# Altium integrated library Linear Technology PMIC-Switching Reg LTC1174-LTC3901.IntLib: 2647 symbols (part 49 of 310)
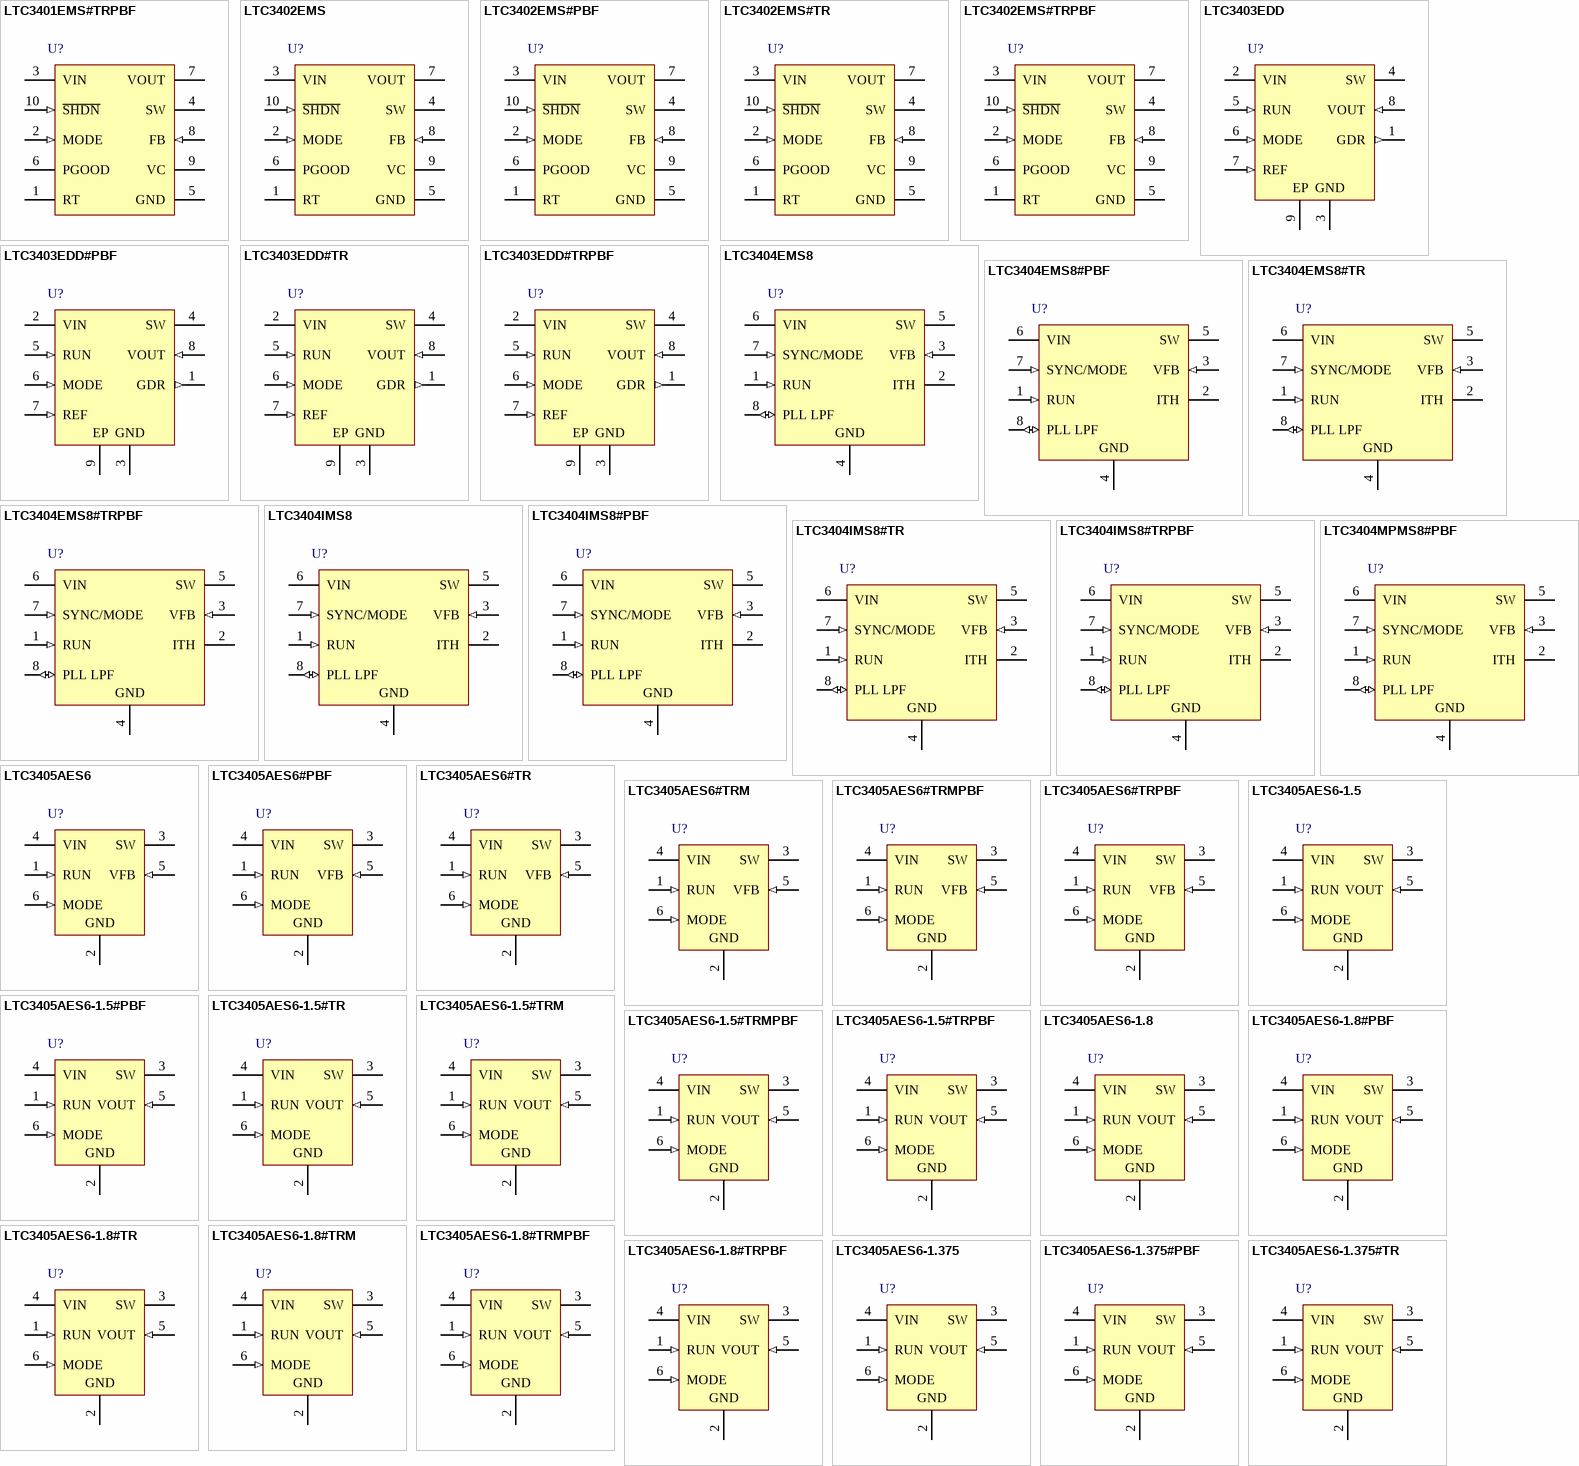
[diagram p145: symbols LTC3401EMS#TRPBF to LTC3405AES6-1.375#TR]

## LTC3401EMS#TRPBF
designator U?
1 A, 3 MHz Micropower Synchronous Boost Converter, 10-pin SOP (MS-10), -40 to 85 degC, Pb-Free, Tape and Reel; Manufacturer: Linear Technology; PartNumber: LTC3401EMS#TRPBF; Number of Outputs: 1; PackageReference: MS-10; PackageDescription: 10-Pin Plastic MSOP, Body 3 x 3 mm, Pitch 0.5 mm; Supplier 1: Digi-Key; Supplier Part Number 1: LTC3401EMS#TRPBFTR-ND; RoHS: TRUE
footprint LT-MS-10_N (SOP, 10-Leads, Body 3.1x3.1mm, Pitch 0.5mm, IPC Medium Density)
footprint LT-MS-10_L (SOP, 10-Leads, Body 3.1x3.1mm, Pitch 0.5mm, IPC High Density)
footprint LT-MS-10_M (SOP, 10-Leads, Body 3.1x3.1mm, Pitch 0.5mm, IPC Low Density)
pins: 1 RT "Timing Resistor to Program the Oscillator Frequency.", 2 MODE (in) "Burst Mode Select and Oscillator Synchronization. MODE/SYNC = High. Enable Burst Mode operation. The inductor peak inductor current will be 1/3 the current limit value and return to zero current on each cycle. During Burst (See Datasheet)", 3 VIN (power) "Input Supply Pin", 4 SW "Switch Pin. Connect inductor and Schottky diode here. For applications with output voltages over 4.3V, a Schottky diode is required to ensure that the SW pin voltage does not exceed its absolute maximum rating. Minimize (See Datasheet)", 5 GND (power) "Signal and Power Ground for the IC.", 6 PGOOD (oc) "Power Good Comparator Output. This open-drain output is low when VFB < -9% from its regulation voltage.", 7 VOUT (power) "Output of the Synchronous Rectifier and Bootstrapped Power Source for the IC. A ceramic capacitor of at least 1uF is required and should be located as close to the VOUT and GND pins as possible (Pins 7 and 5).", 8 FB (in) "Feedback Pin. Connect resistor divider tap here. The output voltage can be adjusted from 2.6V to 5V. The feedback reference voltage is typically 1.25V.", 9 VC "Error Amp Output. A frequency compensation network is connected to this pin to compensate the loop. See the section “Compensating the Feedback Loop” for guidelines.", 10 ~{SHDN} (in) "Shutdown. Grounding this pin shuts down the IC. Tie to >1V to enable (VIN or digital gate output). To operate with input voltages below 1V once the converter has started, a 1M resistor from S\H\D\N\ to VIN and a 5M resistor (See Datasheet)"

## LTC3402EMS
designator U?
1 A, 3 MHz Micropower Synchronous Boost Converter, 10-pin SOP (MS-10), -40 to 85 degC; Manufacturer: Linear Technology; PartNumber: LTC3402EMS; Number of Outputs: 1; PackageReference: MS-10; PackageDescription: 10-Pin Plastic MSOP, Body 3 x 3 mm, Pitch 0.5 mm; Supplier 1: Digi-Key; Supplier Part Number 1: LTC3402EMS-ND; RoHS: FALSE
footprint LT-MS-10_N (SOP, 10-Leads, Body 3.1x3.1mm, Pitch 0.5mm, IPC Medium Density)
footprint LT-MS-10_L (SOP, 10-Leads, Body 3.1x3.1mm, Pitch 0.5mm, IPC High Density)
footprint LT-MS-10_M (SOP, 10-Leads, Body 3.1x3.1mm, Pitch 0.5mm, IPC Low Density)
pins: 1 RT "Timing Resistor to Program the Oscillator Frequency.", 2 MODE (in) "Burst Mode Select and Oscillator Synchronization. MODE/SYNC = High. Enable Burst Mode operation. The inductor peak inductor current will be 1/3 the current limit value and return to zero current on each cycle. During Burst (See Datasheet)", 3 VIN (power) "Input Supply Pin", 4 SW "Switch Pin. Connect inductor and Schottky diode here. For applications with output voltages over 4.3V, a Schottky diode is required to ensure that the SW pin voltage does not exceed its absolute maximum rating. Minimize (See Datasheet)", 5 GND (power) "Signal and Power Ground for the IC.", 6 PGOOD (oc) "Power Good Comparator Output. This open-drain output is low when VFB < -9% from its regulation voltage.", 7 VOUT (power) "Output of the Synchronous Rectifier and Bootstrapped Power Source for the IC. A ceramic capacitor of at least 1uF is required and should be located as close to the VOUT and GND pins as possible (Pins 7 and 5).", 8 FB (in) "Feedback Pin. Connect resistor divider tap here. The output voltage can be adjusted from 2.6V to 5V. The feedback reference voltage is typically 1.25V.", 9 VC "Error Amp Output. A frequency compensation network is connected to this pin to compensate the loop. See the section “Compensating the Feedback Loop” for guidelines.", 10 ~{SHDN} (in) "Shutdown. Grounding this pin shuts down the IC. Tie to >1V to enable (VIN or digital gate output). To operate with input voltages below 1V once the converter has started, a 1M resistor from S\H\D\N\ to VIN and a 5M resistor (See Datasheet)"

## LTC3402EMS#PBF
designator U?
1 A, 3 MHz Micropower Synchronous Boost Converter, 10-pin SOP (MS-10), -40 to 85 degC, Pb-Free; Manufacturer: Linear Technology; PartNumber: LTC3402EMS#PBF; Number of Outputs: 1; PackageReference: MS-10; PackageDescription: 10-Pin Plastic MSOP, Body 3 x 3 mm, Pitch 0.5 mm; Supplier 1: Digi-Key; Supplier Part Number 1: LTC3402EMS#PBF-ND; RoHS: TRUE
footprint LT-MS-10_N (SOP, 10-Leads, Body 3.1x3.1mm, Pitch 0.5mm, IPC Medium Density)
footprint LT-MS-10_L (SOP, 10-Leads, Body 3.1x3.1mm, Pitch 0.5mm, IPC High Density)
footprint LT-MS-10_M (SOP, 10-Leads, Body 3.1x3.1mm, Pitch 0.5mm, IPC Low Density)
pins: 1 RT "Timing Resistor to Program the Oscillator Frequency.", 2 MODE (in) "Burst Mode Select and Oscillator Synchronization. MODE/SYNC = High. Enable Burst Mode operation. The inductor peak inductor current will be 1/3 the current limit value and return to zero current on each cycle. During Burst (See Datasheet)", 3 VIN (power) "Input Supply Pin", 4 SW "Switch Pin. Connect inductor and Schottky diode here. For applications with output voltages over 4.3V, a Schottky diode is required to ensure that the SW pin voltage does not exceed its absolute maximum rating. Minimize (See Datasheet)", 5 GND (power) "Signal and Power Ground for the IC.", 6 PGOOD (oc) "Power Good Comparator Output. This open-drain output is low when VFB < -9% from its regulation voltage.", 7 VOUT (power) "Output of the Synchronous Rectifier and Bootstrapped Power Source for the IC. A ceramic capacitor of at least 1uF is required and should be located as close to the VOUT and GND pins as possible (Pins 7 and 5).", 8 FB (in) "Feedback Pin. Connect resistor divider tap here. The output voltage can be adjusted from 2.6V to 5V. The feedback reference voltage is typically 1.25V.", 9 VC "Error Amp Output. A frequency compensation network is connected to this pin to compensate the loop. See the section “Compensating the Feedback Loop” for guidelines.", 10 ~{SHDN} (in) "Shutdown. Grounding this pin shuts down the IC. Tie to >1V to enable (VIN or digital gate output). To operate with input voltages below 1V once the converter has started, a 1M resistor from S\H\D\N\ to VIN and a 5M resistor (See Datasheet)"

## LTC3402EMS#TR
designator U?
1 A, 3 MHz Micropower Synchronous Boost Converter, 10-pin SOP (MS-10), -40 to 85 degC, Tape and Reel; Manufacturer: Linear Technology; PartNumber: LTC3402EMS#TR; Number of Outputs: 1; PackageReference: MS-10; PackageDescription: 10-Pin Plastic MSOP, Body 3 x 3 mm, Pitch 0.5 mm; Supplier 1: Digi-Key; Supplier Part Number 1: LTC3402EMS#TR-ND; RoHS: FALSE
footprint LT-MS-10_N (SOP, 10-Leads, Body 3.1x3.1mm, Pitch 0.5mm, IPC Medium Density)
footprint LT-MS-10_L (SOP, 10-Leads, Body 3.1x3.1mm, Pitch 0.5mm, IPC High Density)
footprint LT-MS-10_M (SOP, 10-Leads, Body 3.1x3.1mm, Pitch 0.5mm, IPC Low Density)
pins: 1 RT "Timing Resistor to Program the Oscillator Frequency.", 2 MODE (in) "Burst Mode Select and Oscillator Synchronization. MODE/SYNC = High. Enable Burst Mode operation. The inductor peak inductor current will be 1/3 the current limit value and return to zero current on each cycle. During Burst (See Datasheet)", 3 VIN (power) "Input Supply Pin", 4 SW "Switch Pin. Connect inductor and Schottky diode here. For applications with output voltages over 4.3V, a Schottky diode is required to ensure that the SW pin voltage does not exceed its absolute maximum rating. Minimize (See Datasheet)", 5 GND (power) "Signal and Power Ground for the IC.", 6 PGOOD (oc) "Power Good Comparator Output. This open-drain output is low when VFB < -9% from its regulation voltage.", 7 VOUT (power) "Output of the Synchronous Rectifier and Bootstrapped Power Source for the IC. A ceramic capacitor of at least 1uF is required and should be located as close to the VOUT and GND pins as possible (Pins 7 and 5).", 8 FB (in) "Feedback Pin. Connect resistor divider tap here. The output voltage can be adjusted from 2.6V to 5V. The feedback reference voltage is typically 1.25V.", 9 VC "Error Amp Output. A frequency compensation network is connected to this pin to compensate the loop. See the section “Compensating the Feedback Loop” for guidelines.", 10 ~{SHDN} (in) "Shutdown. Grounding this pin shuts down the IC. Tie to >1V to enable (VIN or digital gate output). To operate with input voltages below 1V once the converter has started, a 1M resistor from S\H\D\N\ to VIN and a 5M resistor (See Datasheet)"

## LTC3402EMS#TRPBF
designator U?
1 A, 3 MHz Micropower Synchronous Boost Converter, 10-pin SOP (MS-10), -40 to 85 degC, Pb-Free, Tape and Reel; Manufacturer: Linear Technology; PartNumber: LTC3402EMS#TRPBF; Number of Outputs: 1; PackageReference: MS-10; PackageDescription: 10-Pin Plastic MSOP, Body 3 x 3 mm, Pitch 0.5 mm; Supplier 1: Digi-Key; Supplier Part Number 1: LTC3402EMS#TRPBF-ND; RoHS: TRUE
footprint LT-MS-10_N (SOP, 10-Leads, Body 3.1x3.1mm, Pitch 0.5mm, IPC Medium Density)
footprint LT-MS-10_L (SOP, 10-Leads, Body 3.1x3.1mm, Pitch 0.5mm, IPC High Density)
footprint LT-MS-10_M (SOP, 10-Leads, Body 3.1x3.1mm, Pitch 0.5mm, IPC Low Density)
pins: 1 RT "Timing Resistor to Program the Oscillator Frequency.", 2 MODE (in) "Burst Mode Select and Oscillator Synchronization. MODE/SYNC = High. Enable Burst Mode operation. The inductor peak inductor current will be 1/3 the current limit value and return to zero current on each cycle. During Burst (See Datasheet)", 3 VIN (power) "Input Supply Pin", 4 SW "Switch Pin. Connect inductor and Schottky diode here. For applications with output voltages over 4.3V, a Schottky diode is required to ensure that the SW pin voltage does not exceed its absolute maximum rating. Minimize (See Datasheet)", 5 GND (power) "Signal and Power Ground for the IC.", 6 PGOOD (oc) "Power Good Comparator Output. This open-drain output is low when VFB < -9% from its regulation voltage.", 7 VOUT (power) "Output of the Synchronous Rectifier and Bootstrapped Power Source for the IC. A ceramic capacitor of at least 1uF is required and should be located as close to the VOUT and GND pins as possible (Pins 7 and 5).", 8 FB (in) "Feedback Pin. Connect resistor divider tap here. The output voltage can be adjusted from 2.6V to 5V. The feedback reference voltage is typically 1.25V.", 9 VC "Error Amp Output. A frequency compensation network is connected to this pin to compensate the loop. See the section “Compensating the Feedback Loop” for guidelines.", 10 ~{SHDN} (in) "Shutdown. Grounding this pin shuts down the IC. Tie to >1V to enable (VIN or digital gate output). To operate with input voltages below 1V once the converter has started, a 1M resistor from S\H\D\N\ to VIN and a 5M resistor (See Datasheet)"

## LTC3403EDD
designator U?
1.5MHz, 600mA Synchronous Step-Down Regulator with Bypass Transistor, 8-pin SON (DD-8), -40 to 85 degC; Manufacturer: Linear Technology; PartNumber: LTC3403EDD; Number of Outputs: 1; PackageReference: DD-8; PackageDescription: 8-Pin Plastic DFN, Body 3 x 3 mm, Pitch 0.5 mm; Supplier 1: Digi-Key; Supplier Part Number 1: LTC3403EDD-ND; RoHS: FALSE; Code_JEDEC: MO-229
footprint LT-DD-8_V (SON, 8-Leads, Body 3x3mm, Pitch 0.5mm, Thermal Pad 1.65x2.38 mm)
pins: 1 GDR (out) "MOSFET Gate Driver. Drives a small external P-channel MOSFET.", 2 VIN (power) "Main Supply Pin. Must be closely decoupled to GND, Pin 3, with a 10uF or greater ceramic capacitor.", 3 GND (power) "Ground Pin.", 4 SW (power) "Switch Node Connection to Inductor. This pin connects to the drains of the internal main and synchronous power MOSFET switches.", 5 RUN (in) "Run Control Input. Forcing this pin above 1.5V enables the part. Forcing this pin below 0.3V shuts down the device. In shutdown, all functions are disabled drawing <1uA supply current. Do not leave RUN floating.", 6 MODE (in) "Mode Select Input. To select forced continuous mode, tie to VIN. Grounding this pin selects Burst Mode operation. Do not leave this pin floating.", 7 REF (in) "External Reference Input. Controls the output voltage to 3xthe applied voltage at REF. Also turns on the bypass MOSFET when VREF > 1.2V.", 8 VOUT (in) "Output Voltage Feedback Pin. An internal resistive divider divides the output voltage down by 3 for comparison to the external reference voltage. The drain of the P-channel bypass MOSFET is connected to this pin.", 9 EP (power) "Connect to GND, Pin 3."

## LTC3403EDD#PBF
designator U?
1.5MHz, 600mA Synchronous Step-Down Regulator with Bypass Transistor, 8-pin SON (DD-8), -40 to 85 degC, Pb-Free; Manufacturer: Linear Technology; PartNumber: LTC3403EDD#PBF; Number of Outputs: 1; PackageReference: DD-8; PackageDescription: 8-Pin Plastic DFN, Body 3 x 3 mm, Pitch 0.5 mm; Supplier 1: Digi-Key; Supplier Part Number 1: LTC3403EDD#PBF-ND; RoHS: TRUE; Code_JEDEC: MO-229
footprint LT-DD-8_V (SON, 8-Leads, Body 3x3mm, Pitch 0.5mm, Thermal Pad 1.65x2.38 mm)
pins: 1 GDR (out) "MOSFET Gate Driver. Drives a small external P-channel MOSFET.", 2 VIN (power) "Main Supply Pin. Must be closely decoupled to GND, Pin 3, with a 10uF or greater ceramic capacitor.", 3 GND (power) "Ground Pin.", 4 SW (power) "Switch Node Connection to Inductor. This pin connects to the drains of the internal main and synchronous power MOSFET switches.", 5 RUN (in) "Run Control Input. Forcing this pin above 1.5V enables the part. Forcing this pin below 0.3V shuts down the device. In shutdown, all functions are disabled drawing <1uA supply current. Do not leave RUN floating.", 6 MODE (in) "Mode Select Input. To select forced continuous mode, tie to VIN. Grounding this pin selects Burst Mode operation. Do not leave this pin floating.", 7 REF (in) "External Reference Input. Controls the output voltage to 3xthe applied voltage at REF. Also turns on the bypass MOSFET when VREF > 1.2V.", 8 VOUT (in) "Output Voltage Feedback Pin. An internal resistive divider divides the output voltage down by 3 for comparison to the external reference voltage. The drain of the P-channel bypass MOSFET is connected to this pin.", 9 EP (power) "Connect to GND, Pin 3."

## LTC3403EDD#TR
designator U?
1.5MHz, 600mA Synchronous Step-Down Regulator with Bypass Transistor, 8-pin SON (DD-8), -40 to 85 degC, Tape and Reel; Manufacturer: Linear Technology; PartNumber: LTC3403EDD#TR; Number of Outputs: 1; PackageReference: DD-8; PackageDescription: 8-Pin Plastic DFN, Body 3 x 3 mm, Pitch 0.5 mm; Supplier 1: Digi-Key; Supplier Part Number 1: LTC3403EDD#TR-ND; RoHS: FALSE; Code_JEDEC: MO-229
footprint LT-DD-8_V (SON, 8-Leads, Body 3x3mm, Pitch 0.5mm, Thermal Pad 1.65x2.38 mm)
pins: 1 GDR (out) "MOSFET Gate Driver. Drives a small external P-channel MOSFET.", 2 VIN (power) "Main Supply Pin. Must be closely decoupled to GND, Pin 3, with a 10uF or greater ceramic capacitor.", 3 GND (power) "Ground Pin.", 4 SW (power) "Switch Node Connection to Inductor. This pin connects to the drains of the internal main and synchronous power MOSFET switches.", 5 RUN (in) "Run Control Input. Forcing this pin above 1.5V enables the part. Forcing this pin below 0.3V shuts down the device. In shutdown, all functions are disabled drawing <1uA supply current. Do not leave RUN floating.", 6 MODE (in) "Mode Select Input. To select forced continuous mode, tie to VIN. Grounding this pin selects Burst Mode operation. Do not leave this pin floating.", 7 REF (in) "External Reference Input. Controls the output voltage to 3xthe applied voltage at REF. Also turns on the bypass MOSFET when VREF > 1.2V.", 8 VOUT (in) "Output Voltage Feedback Pin. An internal resistive divider divides the output voltage down by 3 for comparison to the external reference voltage. The drain of the P-channel bypass MOSFET is connected to this pin.", 9 EP (power) "Connect to GND, Pin 3."

## LTC3403EDD#TRPBF
designator U?
1.5MHz, 600mA Synchronous Step-Down Regulator with Bypass Transistor, 8-pin SON (DD-8), -40 to 85 degC, Pb-Free, Tape and Reel; Manufacturer: Linear Technology; PartNumber: LTC3403EDD#TRPBF; Number of Outputs: 1; PackageReference: DD-8; PackageDescription: 8-Pin Plastic DFN, Body 3 x 3 mm, Pitch 0.5 mm; Supplier 1: Digi-Key; Supplier Part Number 1: LTC3403EDD#TRPBF-ND; RoHS: TRUE; Code_JEDEC: MO-229
footprint LT-DD-8_V (SON, 8-Leads, Body 3x3mm, Pitch 0.5mm, Thermal Pad 1.65x2.38 mm)
pins: 1 GDR (out) "MOSFET Gate Driver. Drives a small external P-channel MOSFET.", 2 VIN (power) "Main Supply Pin. Must be closely decoupled to GND, Pin 3, with a 10uF or greater ceramic capacitor.", 3 GND (power) "Ground Pin.", 4 SW (power) "Switch Node Connection to Inductor. This pin connects to the drains of the internal main and synchronous power MOSFET switches.", 5 RUN (in) "Run Control Input. Forcing this pin above 1.5V enables the part. Forcing this pin below 0.3V shuts down the device. In shutdown, all functions are disabled drawing <1uA supply current. Do not leave RUN floating.", 6 MODE (in) "Mode Select Input. To select forced continuous mode, tie to VIN. Grounding this pin selects Burst Mode operation. Do not leave this pin floating.", 7 REF (in) "External Reference Input. Controls the output voltage to 3xthe applied voltage at REF. Also turns on the bypass MOSFET when VREF > 1.2V.", 8 VOUT (in) "Output Voltage Feedback Pin. An internal resistive divider divides the output voltage down by 3 for comparison to the external reference voltage. The drain of the P-channel bypass MOSFET is connected to this pin.", 9 EP (power) "Connect to GND, Pin 3."

## LTC3404EMS8
designator U?
1.4 MHz High Efficiency Monolithic Synchronous Step-Down Regulator, 8-pin SOP (MS8-8), -40 to 85 degC; Manufacturer: Linear Technology; PartNumber: LTC3404EMS8; Number of Outputs: 1; PackageReference: MS8; PackageDescription: 8-Pin Plastic MSOP, Body 3 x 3 mm, Pitch 0.65 mm; Supplier 1: Digi-Key; Supplier Part Number 1: LTC3404EMS8-ND; RoHS: FALSE
footprint LT-MS8_N (SOP, 8-Leads, Body 3.1x3.1mm, Pitch 0.65mm, IPC Medium Density)
footprint LT-MS8_L (SOP, 8-Leads, Body 3.1x3.1mm, Pitch 0.65mm, IPC High Density)
footprint LT-MS8_M (SOP, 8-Leads, Body 3.1x3.1mm, Pitch 0.65mm, IPC Low Density)
pins: 1 RUN (in), 2 ITH "Error Amplifier Compensation Point. The current comparator threshold increases with this control voltage. Nominal voltage range for this pin is from 0.5V to 1.9V", 3 VFB (in) "Feedback Pin. Receives the feedback voltage from an external resistive divider across the output.", 4 GND (power) "Ground Pin.", 5 SW (power) "Switch Node Connection to Inductor. This pin connects to the drains of the internal main and synchronous power MOSFET switches.", 6 VIN (power) "Main Supply Pin. Must be closely decoupled to GND, Pin 4.", 7 SYNC/MODE (in), 8 PLL LPF (io) "Output of the Phase Detector and Control Input of Oscillator. Connect a series RC lowpass network from this pin to ground if externally synchronized. If unused, this pin may be left open."

## LTC3404EMS8#PBF
designator U?
1.4 MHz High Efficiency Monolithic Synchronous Step-Down Regulator, 8-pin SOP (MS8-8), -40 to 85 degC, Pb-Free; Manufacturer: Linear Technology; PartNumber: LTC3404EMS8#PBF; Number of Outputs: 1; PackageReference: MS8; PackageDescription: 8-Pin Plastic MSOP, Body 3 x 3 mm, Pitch 0.65 mm; Supplier 1: Digi-Key; Supplier Part Number 1: LTC3404EMS8#PBF-ND; RoHS: TRUE
footprint LT-MS8_N (SOP, 8-Leads, Body 3.1x3.1mm, Pitch 0.65mm, IPC Medium Density)
footprint LT-MS8_L (SOP, 8-Leads, Body 3.1x3.1mm, Pitch 0.65mm, IPC High Density)
footprint LT-MS8_M (SOP, 8-Leads, Body 3.1x3.1mm, Pitch 0.65mm, IPC Low Density)
pins: 1 RUN (in), 2 ITH "Error Amplifier Compensation Point. The current comparator threshold increases with this control voltage. Nominal voltage range for this pin is from 0.5V to 1.9V", 3 VFB (in) "Feedback Pin. Receives the feedback voltage from an external resistive divider across the output.", 4 GND (power) "Ground Pin.", 5 SW (power) "Switch Node Connection to Inductor. This pin connects to the drains of the internal main and synchronous power MOSFET switches.", 6 VIN (power) "Main Supply Pin. Must be closely decoupled to GND, Pin 4.", 7 SYNC/MODE (in), 8 PLL LPF (io) "Output of the Phase Detector and Control Input of Oscillator. Connect a series RC lowpass network from this pin to ground if externally synchronized. If unused, this pin may be left open."

## LTC3404EMS8#TR
designator U?
1.4 MHz High Efficiency Monolithic Synchronous Step-Down Regulator, 8-pin SOP (MS8-8), -40 to 85 degC, Tape and Reel; Manufacturer: Linear Technology; PartNumber: LTC3404EMS8#TR; Number of Outputs: 1; PackageReference: MS8; PackageDescription: 8-Pin Plastic MSOP, Body 3 x 3 mm, Pitch 0.65 mm; Supplier 1: Digi-Key; Supplier Part Number 1: LTC3404EMS8#TR-ND; RoHS: FALSE
footprint LT-MS8_N (SOP, 8-Leads, Body 3.1x3.1mm, Pitch 0.65mm, IPC Medium Density)
footprint LT-MS8_L (SOP, 8-Leads, Body 3.1x3.1mm, Pitch 0.65mm, IPC High Density)
footprint LT-MS8_M (SOP, 8-Leads, Body 3.1x3.1mm, Pitch 0.65mm, IPC Low Density)
pins: 1 RUN (in), 2 ITH "Error Amplifier Compensation Point. The current comparator threshold increases with this control voltage. Nominal voltage range for this pin is from 0.5V to 1.9V", 3 VFB (in) "Feedback Pin. Receives the feedback voltage from an external resistive divider across the output.", 4 GND (power) "Ground Pin.", 5 SW (power) "Switch Node Connection to Inductor. This pin connects to the drains of the internal main and synchronous power MOSFET switches.", 6 VIN (power) "Main Supply Pin. Must be closely decoupled to GND, Pin 4.", 7 SYNC/MODE (in), 8 PLL LPF (io) "Output of the Phase Detector and Control Input of Oscillator. Connect a series RC lowpass network from this pin to ground if externally synchronized. If unused, this pin may be left open."

## LTC3404EMS8#TRPBF
designator U?
1.4 MHz High Efficiency Monolithic Synchronous Step-Down Regulator, 8-pin SOP (MS8-8), -40 to 85 degC, Pb-Free, Tape and Reel; Manufacturer: Linear Technology; PartNumber: LTC3404EMS8#TRPBF; Number of Outputs: 1; PackageReference: MS8; PackageDescription: 8-Pin Plastic MSOP, Body 3 x 3 mm, Pitch 0.65 mm; Supplier 1: Digi-Key; Supplier Part Number 1: LTC3404EMS8#TRPBF-ND; RoHS: TRUE
footprint LT-MS8_N (SOP, 8-Leads, Body 3.1x3.1mm, Pitch 0.65mm, IPC Medium Density)
footprint LT-MS8_L (SOP, 8-Leads, Body 3.1x3.1mm, Pitch 0.65mm, IPC High Density)
footprint LT-MS8_M (SOP, 8-Leads, Body 3.1x3.1mm, Pitch 0.65mm, IPC Low Density)
pins: 1 RUN (in), 2 ITH "Error Amplifier Compensation Point. The current comparator threshold increases with this control voltage. Nominal voltage range for this pin is from 0.5V to 1.9V", 3 VFB (in) "Feedback Pin. Receives the feedback voltage from an external resistive divider across the output.", 4 GND (power) "Ground Pin.", 5 SW (power) "Switch Node Connection to Inductor. This pin connects to the drains of the internal main and synchronous power MOSFET switches.", 6 VIN (power) "Main Supply Pin. Must be closely decoupled to GND, Pin 4.", 7 SYNC/MODE (in), 8 PLL LPF (io) "Output of the Phase Detector and Control Input of Oscillator. Connect a series RC lowpass network from this pin to ground if externally synchronized. If unused, this pin may be left open."

## LTC3404IMS8
designator U?
1.4 MHz High Efficiency Monolithic Synchronous Step-Down Regulator, 8-pin SOP (MS8-8), -40 to 85 degC; Manufacturer: Linear Technology; PartNumber: LTC3404IMS8; Number of Outputs: 1; PackageReference: MS8; PackageDescription: 8-Pin Plastic MSOP, Body 3 x 3 mm, Pitch 0.65 mm; Supplier 1: Newark; Supplier Part Number 1: 56M7510; RoHS: FALSE
footprint LT-MS8_N (SOP, 8-Leads, Body 3.1x3.1mm, Pitch 0.65mm, IPC Medium Density)
footprint LT-MS8_L (SOP, 8-Leads, Body 3.1x3.1mm, Pitch 0.65mm, IPC High Density)
footprint LT-MS8_M (SOP, 8-Leads, Body 3.1x3.1mm, Pitch 0.65mm, IPC Low Density)
pins: 1 RUN (in), 2 ITH "Error Amplifier Compensation Point. The current comparator threshold increases with this control voltage. Nominal voltage range for this pin is from 0.5V to 1.9V", 3 VFB (in) "Feedback Pin. Receives the feedback voltage from an external resistive divider across the output.", 4 GND (power) "Ground Pin.", 5 SW (power) "Switch Node Connection to Inductor. This pin connects to the drains of the internal main and synchronous power MOSFET switches.", 6 VIN (power) "Main Supply Pin. Must be closely decoupled to GND, Pin 4.", 7 SYNC/MODE (in), 8 PLL LPF (io) "Output of the Phase Detector and Control Input of Oscillator. Connect a series RC lowpass network from this pin to ground if externally synchronized. If unused, this pin may be left open."

## LTC3404IMS8#PBF
designator U?
1.4 MHz High Efficiency Monolithic Synchronous Step-Down Regulator, 8-pin SOP (MS8-8), -40 to 85 degC, Pb-Free; Manufacturer: Linear Technology; PartNumber: LTC3404IMS8#PBF; Number of Outputs: 1; PackageReference: MS8; PackageDescription: 8-Pin Plastic MSOP, Body 3 x 3 mm, Pitch 0.65 mm; Supplier 1: Digi-Key; Supplier Part Number 1: LTC3404IMS8#PBF-ND; RoHS: TRUE
footprint LT-MS8_N (SOP, 8-Leads, Body 3.1x3.1mm, Pitch 0.65mm, IPC Medium Density)
footprint LT-MS8_L (SOP, 8-Leads, Body 3.1x3.1mm, Pitch 0.65mm, IPC High Density)
footprint LT-MS8_M (SOP, 8-Leads, Body 3.1x3.1mm, Pitch 0.65mm, IPC Low Density)
pins: 1 RUN (in), 2 ITH "Error Amplifier Compensation Point. The current comparator threshold increases with this control voltage. Nominal voltage range for this pin is from 0.5V to 1.9V", 3 VFB (in) "Feedback Pin. Receives the feedback voltage from an external resistive divider across the output.", 4 GND (power) "Ground Pin.", 5 SW (power) "Switch Node Connection to Inductor. This pin connects to the drains of the internal main and synchronous power MOSFET switches.", 6 VIN (power) "Main Supply Pin. Must be closely decoupled to GND, Pin 4.", 7 SYNC/MODE (in), 8 PLL LPF (io) "Output of the Phase Detector and Control Input of Oscillator. Connect a series RC lowpass network from this pin to ground if externally synchronized. If unused, this pin may be left open."

## LTC3404IMS8#TR
designator U?
1.4 MHz High Efficiency Monolithic Synchronous Step-Down Regulator, 8-pin SOP (MS8-8), -40 to 85 degC, Tape and Reel; Manufacturer: Linear Technology; PartNumber: LTC3404IMS8#TR; Number of Outputs: 1; PackageReference: MS8; PackageDescription: 8-Pin Plastic MSOP, Body 3 x 3 mm, Pitch 0.65 mm; RoHS: FALSE
footprint LT-MS8_N (SOP, 8-Leads, Body 3.1x3.1mm, Pitch 0.65mm, IPC Medium Density)
footprint LT-MS8_L (SOP, 8-Leads, Body 3.1x3.1mm, Pitch 0.65mm, IPC High Density)
footprint LT-MS8_M (SOP, 8-Leads, Body 3.1x3.1mm, Pitch 0.65mm, IPC Low Density)
pins: 1 RUN (in), 2 ITH "Error Amplifier Compensation Point. The current comparator threshold increases with this control voltage. Nominal voltage range for this pin is from 0.5V to 1.9V", 3 VFB (in) "Feedback Pin. Receives the feedback voltage from an external resistive divider across the output.", 4 GND (power) "Ground Pin.", 5 SW (power) "Switch Node Connection to Inductor. This pin connects to the drains of the internal main and synchronous power MOSFET switches.", 6 VIN (power) "Main Supply Pin. Must be closely decoupled to GND, Pin 4.", 7 SYNC/MODE (in), 8 PLL LPF (io) "Output of the Phase Detector and Control Input of Oscillator. Connect a series RC lowpass network from this pin to ground if externally synchronized. If unused, this pin may be left open."

## LTC3404IMS8#TRPBF
designator U?
1.4 MHz High Efficiency Monolithic Synchronous Step-Down Regulator, 8-pin SOP (MS8-8), -40 to 85 degC, Pb-Free, Tape and Reel; Manufacturer: Linear Technology; PartNumber: LTC3404IMS8#TRPBF; Number of Outputs: 1; PackageReference: MS8; PackageDescription: 8-Pin Plastic MSOP, Body 3 x 3 mm, Pitch 0.65 mm; Supplier 1: Digi-Key; Supplier Part Number 1: LTC3404IMS8#TRPBF-ND; RoHS: TRUE
footprint LT-MS8_N (SOP, 8-Leads, Body 3.1x3.1mm, Pitch 0.65mm, IPC Medium Density)
footprint LT-MS8_L (SOP, 8-Leads, Body 3.1x3.1mm, Pitch 0.65mm, IPC High Density)
footprint LT-MS8_M (SOP, 8-Leads, Body 3.1x3.1mm, Pitch 0.65mm, IPC Low Density)
pins: 1 RUN (in), 2 ITH "Error Amplifier Compensation Point. The current comparator threshold increases with this control voltage. Nominal voltage range for this pin is from 0.5V to 1.9V", 3 VFB (in) "Feedback Pin. Receives the feedback voltage from an external resistive divider across the output.", 4 GND (power) "Ground Pin.", 5 SW (power) "Switch Node Connection to Inductor. This pin connects to the drains of the internal main and synchronous power MOSFET switches.", 6 VIN (power) "Main Supply Pin. Must be closely decoupled to GND, Pin 4.", 7 SYNC/MODE (in), 8 PLL LPF (io) "Output of the Phase Detector and Control Input of Oscillator. Connect a series RC lowpass network from this pin to ground if externally synchronized. If unused, this pin may be left open."

## LTC3404MPMS8#PBF
designator U?
1.4 MHz High Efficiency Monolithic Synchronous Step-Down Regulator, 8-pin SOP (MS8-8), -55 to 125 degC, Pb-Free; Manufacturer: Linear Technology; PartNumber: LTC3404MPMS8#PBF; Number of Outputs: 1; PackageReference: MS8; PackageDescription: 8-Pin Plastic MSOP, Body 3 x 3 mm, Pitch 0.65 mm; Supplier 1: Digi-Key; Supplier Part Number 1: LTC3404MPMS8#PBF-ND; RoHS: TRUE
footprint LT-MS8_N (SOP, 8-Leads, Body 3.1x3.1mm, Pitch 0.65mm, IPC Medium Density)
footprint LT-MS8_L (SOP, 8-Leads, Body 3.1x3.1mm, Pitch 0.65mm, IPC High Density)
footprint LT-MS8_M (SOP, 8-Leads, Body 3.1x3.1mm, Pitch 0.65mm, IPC Low Density)
pins: 1 RUN (in), 2 ITH "Error Amplifier Compensation Point. The current comparator threshold increases with this control voltage. Nominal voltage range for this pin is from 0.5V to 1.9V", 3 VFB (in) "Feedback Pin. Receives the feedback voltage from an external resistive divider across the output.", 4 GND (power) "Ground Pin.", 5 SW (power) "Switch Node Connection to Inductor. This pin connects to the drains of the internal main and synchronous power MOSFET switches.", 6 VIN (power) "Main Supply Pin. Must be closely decoupled to GND, Pin 4.", 7 SYNC/MODE (in), 8 PLL LPF (io) "Output of the Phase Detector and Control Input of Oscillator. Connect a series RC lowpass network from this pin to ground if externally synchronized. If unused, this pin may be left open."

## LTC3405AES6
designator U?
1.5 MHz, 300 mA Synchronous Step-Down Regulator, 6-pin SOT23 (S6-6), -40 to 85 degC; Manufacturer: Linear Technology; PartNumber: LTC3405AES6; Number of Outputs: 1; PackageReference: S6-6; PackageDescription: 6-Pin Plastic TSOT-23, Body 2.9 x 1.63 mm, Pitch 0.95 mm; RoHS: FALSE; Code_JEDEC: MO-193
footprint LT-S6-6-TSOT-23_N (SOT23, 6-Leads, Body 2.9x1.75mm, Pitch 0.95mm, IPC Medium Density)
footprint LT-S6-6-TSOT-23_L (SOT23, 6-Leads, Body 2.9x1.75mm, Pitch 0.95mm, IPC High Density)
footprint LT-S6-6-TSOT-23_M (SOT23, 6-Leads, Body 2.9x1.75mm, Pitch 0.95mm, IPC Low Density)
pins: 1 RUN (in) "Run Control Input. Forcing this pin above 1.5V enables the part. Forcing this pin below 0.3V shuts down the device. In shutdown, all functions are disabled drawing <1uA supply current. Do not leave RUN floating.", 2 GND (power) "Ground Pin.", 3 SW (power) "Switch Node Connection to Inductor. This pin connects to the drains of the internal main and synchronous power MOSFET switches.", 4 VIN (power) "Main Supply Pin. Must be closely decoupled to GND, Pin 2, with a 2.2uF or greater ceramic capacitor.", 5 VFB (in) "Feedback Pin. Receives the feedback voltage from an external resistive divider across the output.", 6 MODE (in) "Mode Select Input. To select pulse skipping mode, tie to VIN. Grounding this pin selects Burst Mode operation. Do not leave this pin floating."

## LTC3405AES6#PBF
designator U?
1.5 MHz, 300 mA Synchronous Step-Down Regulator, 6-pin SOT23 (S6-6), -40 to 85 degC, Pb-Free; Manufacturer: Linear Technology; PartNumber: LTC3405AES6#PBF; Number of Outputs: 1; PackageReference: S6-6; PackageDescription: 6-Pin Plastic TSOT-23, Body 2.9 x 1.63 mm, Pitch 0.95 mm; Supplier 1: Farnell; Supplier Part Number 1: 2102604; RoHS: TRUE; Code_JEDEC: MO-193
footprint LT-S6-6-TSOT-23_N (SOT23, 6-Leads, Body 2.9x1.75mm, Pitch 0.95mm, IPC Medium Density)
footprint LT-S6-6-TSOT-23_L (SOT23, 6-Leads, Body 2.9x1.75mm, Pitch 0.95mm, IPC High Density)
footprint LT-S6-6-TSOT-23_M (SOT23, 6-Leads, Body 2.9x1.75mm, Pitch 0.95mm, IPC Low Density)
pins: 1 RUN (in) "Run Control Input. Forcing this pin above 1.5V enables the part. Forcing this pin below 0.3V shuts down the device. In shutdown, all functions are disabled drawing <1uA supply current. Do not leave RUN floating.", 2 GND (power) "Ground Pin.", 3 SW (power) "Switch Node Connection to Inductor. This pin connects to the drains of the internal main and synchronous power MOSFET switches.", 4 VIN (power) "Main Supply Pin. Must be closely decoupled to GND, Pin 2, with a 2.2uF or greater ceramic capacitor.", 5 VFB (in) "Feedback Pin. Receives the feedback voltage from an external resistive divider across the output.", 6 MODE (in) "Mode Select Input. To select pulse skipping mode, tie to VIN. Grounding this pin selects Burst Mode operation. Do not leave this pin floating."

## LTC3405AES6#TR
designator U?
1.5 MHz, 300 mA Synchronous Step-Down Regulator, 6-pin SOT23 (S6-6), -40 to 85 degC, Tape and Reel; Manufacturer: Linear Technology; PartNumber: LTC3405AES6#TR; Number of Outputs: 1; PackageReference: S6-6; PackageDescription: 6-Pin Plastic TSOT-23, Body 2.9 x 1.63 mm, Pitch 0.95 mm; Supplier 1: Digi-Key; Supplier Part Number 1: LTC3405AES6TR-ND; RoHS: FALSE; Code_JEDEC: MO-193
footprint LT-S6-6-TSOT-23_N (SOT23, 6-Leads, Body 2.9x1.75mm, Pitch 0.95mm, IPC Medium Density)
footprint LT-S6-6-TSOT-23_L (SOT23, 6-Leads, Body 2.9x1.75mm, Pitch 0.95mm, IPC High Density)
footprint LT-S6-6-TSOT-23_M (SOT23, 6-Leads, Body 2.9x1.75mm, Pitch 0.95mm, IPC Low Density)
pins: 1 RUN (in) "Run Control Input. Forcing this pin above 1.5V enables the part. Forcing this pin below 0.3V shuts down the device. In shutdown, all functions are disabled drawing <1uA supply current. Do not leave RUN floating.", 2 GND (power) "Ground Pin.", 3 SW (power) "Switch Node Connection to Inductor. This pin connects to the drains of the internal main and synchronous power MOSFET switches.", 4 VIN (power) "Main Supply Pin. Must be closely decoupled to GND, Pin 2, with a 2.2uF or greater ceramic capacitor.", 5 VFB (in) "Feedback Pin. Receives the feedback voltage from an external resistive divider across the output.", 6 MODE (in) "Mode Select Input. To select pulse skipping mode, tie to VIN. Grounding this pin selects Burst Mode operation. Do not leave this pin floating."

## LTC3405AES6#TRM
designator U?
1.5 MHz, 300 mA Synchronous Step-Down Regulator, 6-pin SOT23 (S6-6), -40 to 85 degC, Mini Tape and Reel; Manufacturer: Linear Technology; PartNumber: LTC3405AES6#TRM; Number of Outputs: 1; PackageReference: S6-6; PackageDescription: 6-Pin Plastic TSOT-23, Body 2.9 x 1.63 mm, Pitch 0.95 mm; Supplier 1: Digi-Key; Supplier Part Number 1: LTC3405AES6#TRMTR-ND; RoHS: FALSE; Code_JEDEC: MO-193
footprint LT-S6-6-TSOT-23_N (SOT23, 6-Leads, Body 2.9x1.75mm, Pitch 0.95mm, IPC Medium Density)
footprint LT-S6-6-TSOT-23_L (SOT23, 6-Leads, Body 2.9x1.75mm, Pitch 0.95mm, IPC High Density)
footprint LT-S6-6-TSOT-23_M (SOT23, 6-Leads, Body 2.9x1.75mm, Pitch 0.95mm, IPC Low Density)
pins: 1 RUN (in) "Run Control Input. Forcing this pin above 1.5V enables the part. Forcing this pin below 0.3V shuts down the device. In shutdown, all functions are disabled drawing <1uA supply current. Do not leave RUN floating.", 2 GND (power) "Ground Pin.", 3 SW (power) "Switch Node Connection to Inductor. This pin connects to the drains of the internal main and synchronous power MOSFET switches.", 4 VIN (power) "Main Supply Pin. Must be closely decoupled to GND, Pin 2, with a 2.2uF or greater ceramic capacitor.", 5 VFB (in) "Feedback Pin. Receives the feedback voltage from an external resistive divider across the output.", 6 MODE (in) "Mode Select Input. To select pulse skipping mode, tie to VIN. Grounding this pin selects Burst Mode operation. Do not leave this pin floating."

## LTC3405AES6#TRMPBF
designator U?
1.5 MHz, 300 mA Synchronous Step-Down Regulator, 6-pin SOT23 (S6-6), -40 to 85 degC, Pb-Free, Mini Tape and Reel; Manufacturer: Linear Technology; PartNumber: LTC3405AES6#TRMPBF; Number of Outputs: 1; PackageReference: S6-6; PackageDescription: 6-Pin Plastic TSOT-23, Body 2.9 x 1.63 mm, Pitch 0.95 mm; Supplier 1: Digi-Key; Supplier Part Number 1: LTC3405AES6#TRMPBFTR-ND; RoHS: TRUE; Code_JEDEC: MO-193
footprint LT-S6-6-TSOT-23_N (SOT23, 6-Leads, Body 2.9x1.75mm, Pitch 0.95mm, IPC Medium Density)
footprint LT-S6-6-TSOT-23_L (SOT23, 6-Leads, Body 2.9x1.75mm, Pitch 0.95mm, IPC High Density)
footprint LT-S6-6-TSOT-23_M (SOT23, 6-Leads, Body 2.9x1.75mm, Pitch 0.95mm, IPC Low Density)
pins: 1 RUN (in) "Run Control Input. Forcing this pin above 1.5V enables the part. Forcing this pin below 0.3V shuts down the device. In shutdown, all functions are disabled drawing <1uA supply current. Do not leave RUN floating.", 2 GND (power) "Ground Pin.", 3 SW (power) "Switch Node Connection to Inductor. This pin connects to the drains of the internal main and synchronous power MOSFET switches.", 4 VIN (power) "Main Supply Pin. Must be closely decoupled to GND, Pin 2, with a 2.2uF or greater ceramic capacitor.", 5 VFB (in) "Feedback Pin. Receives the feedback voltage from an external resistive divider across the output.", 6 MODE (in) "Mode Select Input. To select pulse skipping mode, tie to VIN. Grounding this pin selects Burst Mode operation. Do not leave this pin floating."

## LTC3405AES6#TRPBF
designator U?
1.5 MHz, 300 mA Synchronous Step-Down Regulator, 6-pin SOT23 (S6-6), -40 to 85 degC, Pb-Free, Tape and Reel; Manufacturer: Linear Technology; PartNumber: LTC3405AES6#TRPBF; Number of Outputs: 1; PackageReference: S6-6; PackageDescription: 6-Pin Plastic TSOT-23, Body 2.9 x 1.63 mm, Pitch 0.95 mm; Supplier 1: Digi-Key; Supplier Part Number 1: LTC3405AES6#TRPBF-ND; RoHS: TRUE; Code_JEDEC: MO-193
footprint LT-S6-6-TSOT-23_N (SOT23, 6-Leads, Body 2.9x1.75mm, Pitch 0.95mm, IPC Medium Density)
footprint LT-S6-6-TSOT-23_L (SOT23, 6-Leads, Body 2.9x1.75mm, Pitch 0.95mm, IPC High Density)
footprint LT-S6-6-TSOT-23_M (SOT23, 6-Leads, Body 2.9x1.75mm, Pitch 0.95mm, IPC Low Density)
pins: 1 RUN (in) "Run Control Input. Forcing this pin above 1.5V enables the part. Forcing this pin below 0.3V shuts down the device. In shutdown, all functions are disabled drawing <1uA supply current. Do not leave RUN floating.", 2 GND (power) "Ground Pin.", 3 SW (power) "Switch Node Connection to Inductor. This pin connects to the drains of the internal main and synchronous power MOSFET switches.", 4 VIN (power) "Main Supply Pin. Must be closely decoupled to GND, Pin 2, with a 2.2uF or greater ceramic capacitor.", 5 VFB (in) "Feedback Pin. Receives the feedback voltage from an external resistive divider across the output.", 6 MODE (in) "Mode Select Input. To select pulse skipping mode, tie to VIN. Grounding this pin selects Burst Mode operation. Do not leave this pin floating."

## LTC3405AES6-1.5
designator U?
1.5 MHz, 300 mA Synchronous Step-Down Regulator, 6-pin SOT23 (S6-6), -40 to 85 degC; Manufacturer: Linear Technology; PartNumber: LTC3405AES6-1.5; Number of Outputs: 1; PackageReference: S6-6; PackageDescription: 6-Pin Plastic TSOT-23, Body 2.9 x 1.63 mm, Pitch 0.95 mm; RoHS: FALSE; Code_JEDEC: MO-193
footprint LT-S6-6-TSOT-23_N (SOT23, 6-Leads, Body 2.9x1.75mm, Pitch 0.95mm, IPC Medium Density)
footprint LT-S6-6-TSOT-23_L (SOT23, 6-Leads, Body 2.9x1.75mm, Pitch 0.95mm, IPC High Density)
footprint LT-S6-6-TSOT-23_M (SOT23, 6-Leads, Body 2.9x1.75mm, Pitch 0.95mm, IPC Low Density)
pins: 1 RUN (in) "Run Control Input. Forcing this pin above 1.5V enables the part. Forcing this pin below 0.3V shuts down the device. In shutdown, all functions are disabled drawing <1uA supply current. Do not leave RUN floating.", 2 GND (power) "Ground Pin.", 3 SW (power) "Switch Node Connection to Inductor. This pin connects to the drains of the internal main and synchronous power MOSFET switches.", 4 VIN (power) "Main Supply Pin. Must be closely decoupled to GND, Pin 2, with a 2.2uF or greater ceramic capacitor.", 5 VOUT (in) "Output Voltage Feedback Pin. An internal resistive divider divides the output voltage down for comparison to the internal 1.2V/0.9V reference voltage.", 6 MODE (in) "Mode Select Input. To select pulse skipping mode, tie to VIN. Grounding this pin selects Burst Mode operation. Do not leave this pin floating."

## LTC3405AES6-1.5#PBF
designator U?
1.5 MHz, 300 mA Synchronous Step-Down Regulator, 6-pin SOT23 (S6-6), -40 to 85 degC, Pb-Free; Manufacturer: Linear Technology; PartNumber: LTC3405AES6-1.5#PBF; Number of Outputs: 1; PackageReference: S6-6; PackageDescription: 6-Pin Plastic TSOT-23, Body 2.9 x 1.63 mm, Pitch 0.95 mm; RoHS: TRUE; Code_JEDEC: MO-193
footprint LT-S6-6-TSOT-23_N (SOT23, 6-Leads, Body 2.9x1.75mm, Pitch 0.95mm, IPC Medium Density)
footprint LT-S6-6-TSOT-23_L (SOT23, 6-Leads, Body 2.9x1.75mm, Pitch 0.95mm, IPC High Density)
footprint LT-S6-6-TSOT-23_M (SOT23, 6-Leads, Body 2.9x1.75mm, Pitch 0.95mm, IPC Low Density)
pins: 1 RUN (in) "Run Control Input. Forcing this pin above 1.5V enables the part. Forcing this pin below 0.3V shuts down the device. In shutdown, all functions are disabled drawing <1uA supply current. Do not leave RUN floating.", 2 GND (power) "Ground Pin.", 3 SW (power) "Switch Node Connection to Inductor. This pin connects to the drains of the internal main and synchronous power MOSFET switches.", 4 VIN (power) "Main Supply Pin. Must be closely decoupled to GND, Pin 2, with a 2.2uF or greater ceramic capacitor.", 5 VOUT (in) "Output Voltage Feedback Pin. An internal resistive divider divides the output voltage down for comparison to the internal 1.2V/0.9V reference voltage.", 6 MODE (in) "Mode Select Input. To select pulse skipping mode, tie to VIN. Grounding this pin selects Burst Mode operation. Do not leave this pin floating."

## LTC3405AES6-1.5#TR
designator U?
1.5 MHz, 300 mA Synchronous Step-Down Regulator, 6-pin SOT23 (S6-6), -40 to 85 degC, Tape and Reel; Manufacturer: Linear Technology; PartNumber: LTC3405AES6-1.5#TR; Number of Outputs: 1; PackageReference: S6-6; PackageDescription: 6-Pin Plastic TSOT-23, Body 2.9 x 1.63 mm, Pitch 0.95 mm; Supplier 1: Digi-Key; Supplier Part Number 1: LTC3405AES6-1.5TR-ND; RoHS: FALSE; Code_JEDEC: MO-193
footprint LT-S6-6-TSOT-23_N (SOT23, 6-Leads, Body 2.9x1.75mm, Pitch 0.95mm, IPC Medium Density)
footprint LT-S6-6-TSOT-23_L (SOT23, 6-Leads, Body 2.9x1.75mm, Pitch 0.95mm, IPC High Density)
footprint LT-S6-6-TSOT-23_M (SOT23, 6-Leads, Body 2.9x1.75mm, Pitch 0.95mm, IPC Low Density)
pins: 1 RUN (in) "Run Control Input. Forcing this pin above 1.5V enables the part. Forcing this pin below 0.3V shuts down the device. In shutdown, all functions are disabled drawing <1uA supply current. Do not leave RUN floating.", 2 GND (power) "Ground Pin.", 3 SW (power) "Switch Node Connection to Inductor. This pin connects to the drains of the internal main and synchronous power MOSFET switches.", 4 VIN (power) "Main Supply Pin. Must be closely decoupled to GND, Pin 2, with a 2.2uF or greater ceramic capacitor.", 5 VOUT (in) "Output Voltage Feedback Pin. An internal resistive divider divides the output voltage down for comparison to the internal 1.2V/0.9V reference voltage.", 6 MODE (in) "Mode Select Input. To select pulse skipping mode, tie to VIN. Grounding this pin selects Burst Mode operation. Do not leave this pin floating."

## LTC3405AES6-1.5#TRM
designator U?
1.5 MHz, 300 mA Synchronous Step-Down Regulator, 6-pin SOT23 (S6-6), -40 to 85 degC, Mini Tape and Reel; Manufacturer: Linear Technology; PartNumber: LTC3405AES6-1.5#TRM; Number of Outputs: 1; PackageReference: S6-6; PackageDescription: 6-Pin Plastic TSOT-23, Body 2.9 x 1.63 mm, Pitch 0.95 mm; Supplier 1: Digi-Key; Supplier Part Number 1: LTC3405AES6-1.5#TRMCT-ND; RoHS: FALSE; Code_JEDEC: MO-193
footprint LT-S6-6-TSOT-23_N (SOT23, 6-Leads, Body 2.9x1.75mm, Pitch 0.95mm, IPC Medium Density)
footprint LT-S6-6-TSOT-23_L (SOT23, 6-Leads, Body 2.9x1.75mm, Pitch 0.95mm, IPC High Density)
footprint LT-S6-6-TSOT-23_M (SOT23, 6-Leads, Body 2.9x1.75mm, Pitch 0.95mm, IPC Low Density)
pins: 1 RUN (in) "Run Control Input. Forcing this pin above 1.5V enables the part. Forcing this pin below 0.3V shuts down the device. In shutdown, all functions are disabled drawing <1uA supply current. Do not leave RUN floating.", 2 GND (power) "Ground Pin.", 3 SW (power) "Switch Node Connection to Inductor. This pin connects to the drains of the internal main and synchronous power MOSFET switches.", 4 VIN (power) "Main Supply Pin. Must be closely decoupled to GND, Pin 2, with a 2.2uF or greater ceramic capacitor.", 5 VOUT (in) "Output Voltage Feedback Pin. An internal resistive divider divides the output voltage down for comparison to the internal 1.2V/0.9V reference voltage.", 6 MODE (in) "Mode Select Input. To select pulse skipping mode, tie to VIN. Grounding this pin selects Burst Mode operation. Do not leave this pin floating."

## LTC3405AES6-1.5#TRMPBF
designator U?
1.5 MHz, 300 mA Synchronous Step-Down Regulator, 6-pin SOT23 (S6-6), -40 to 85 degC, Pb-Free, Mini Tape and Reel; Manufacturer: Linear Technology; PartNumber: LTC3405AES6-1.5#TRMPBF; Number of Outputs: 1; PackageReference: S6-6; PackageDescription: 6-Pin Plastic TSOT-23, Body 2.9 x 1.63 mm, Pitch 0.95 mm; Supplier 1: Digi-Key; Supplier Part Number 1: LTC3405AES6-1.5#TRMPBFTR-ND; RoHS: TRUE; Code_JEDEC: MO-193
footprint LT-S6-6-TSOT-23_N (SOT23, 6-Leads, Body 2.9x1.75mm, Pitch 0.95mm, IPC Medium Density)
footprint LT-S6-6-TSOT-23_L (SOT23, 6-Leads, Body 2.9x1.75mm, Pitch 0.95mm, IPC High Density)
footprint LT-S6-6-TSOT-23_M (SOT23, 6-Leads, Body 2.9x1.75mm, Pitch 0.95mm, IPC Low Density)
pins: 1 RUN (in) "Run Control Input. Forcing this pin above 1.5V enables the part. Forcing this pin below 0.3V shuts down the device. In shutdown, all functions are disabled drawing <1uA supply current. Do not leave RUN floating.", 2 GND (power) "Ground Pin.", 3 SW (power) "Switch Node Connection to Inductor. This pin connects to the drains of the internal main and synchronous power MOSFET switches.", 4 VIN (power) "Main Supply Pin. Must be closely decoupled to GND, Pin 2, with a 2.2uF or greater ceramic capacitor.", 5 VOUT (in) "Output Voltage Feedback Pin. An internal resistive divider divides the output voltage down for comparison to the internal 1.2V/0.9V reference voltage.", 6 MODE (in) "Mode Select Input. To select pulse skipping mode, tie to VIN. Grounding this pin selects Burst Mode operation. Do not leave this pin floating."

## LTC3405AES6-1.5#TRPBF
designator U?
1.5 MHz, 300 mA Synchronous Step-Down Regulator, 6-pin SOT23 (S6-6), -40 to 85 degC, Pb-Free, Tape and Reel; Manufacturer: Linear Technology; PartNumber: LTC3405AES6-1.5#TRPBF; Number of Outputs: 1; PackageReference: S6-6; PackageDescription: 6-Pin Plastic TSOT-23, Body 2.9 x 1.63 mm, Pitch 0.95 mm; Supplier 1: Digi-Key; Supplier Part Number 1: LTC3405AES6-1.5#TRPBF-ND; RoHS: TRUE; Code_JEDEC: MO-193
footprint LT-S6-6-TSOT-23_N (SOT23, 6-Leads, Body 2.9x1.75mm, Pitch 0.95mm, IPC Medium Density)
footprint LT-S6-6-TSOT-23_L (SOT23, 6-Leads, Body 2.9x1.75mm, Pitch 0.95mm, IPC High Density)
footprint LT-S6-6-TSOT-23_M (SOT23, 6-Leads, Body 2.9x1.75mm, Pitch 0.95mm, IPC Low Density)
pins: 1 RUN (in) "Run Control Input. Forcing this pin above 1.5V enables the part. Forcing this pin below 0.3V shuts down the device. In shutdown, all functions are disabled drawing <1uA supply current. Do not leave RUN floating.", 2 GND (power) "Ground Pin.", 3 SW (power) "Switch Node Connection to Inductor. This pin connects to the drains of the internal main and synchronous power MOSFET switches.", 4 VIN (power) "Main Supply Pin. Must be closely decoupled to GND, Pin 2, with a 2.2uF or greater ceramic capacitor.", 5 VOUT (in) "Output Voltage Feedback Pin. An internal resistive divider divides the output voltage down for comparison to the internal 1.2V/0.9V reference voltage.", 6 MODE (in) "Mode Select Input. To select pulse skipping mode, tie to VIN. Grounding this pin selects Burst Mode operation. Do not leave this pin floating."